# EAGLE library part FT232RL-REEL (library circuit_tree)
IC
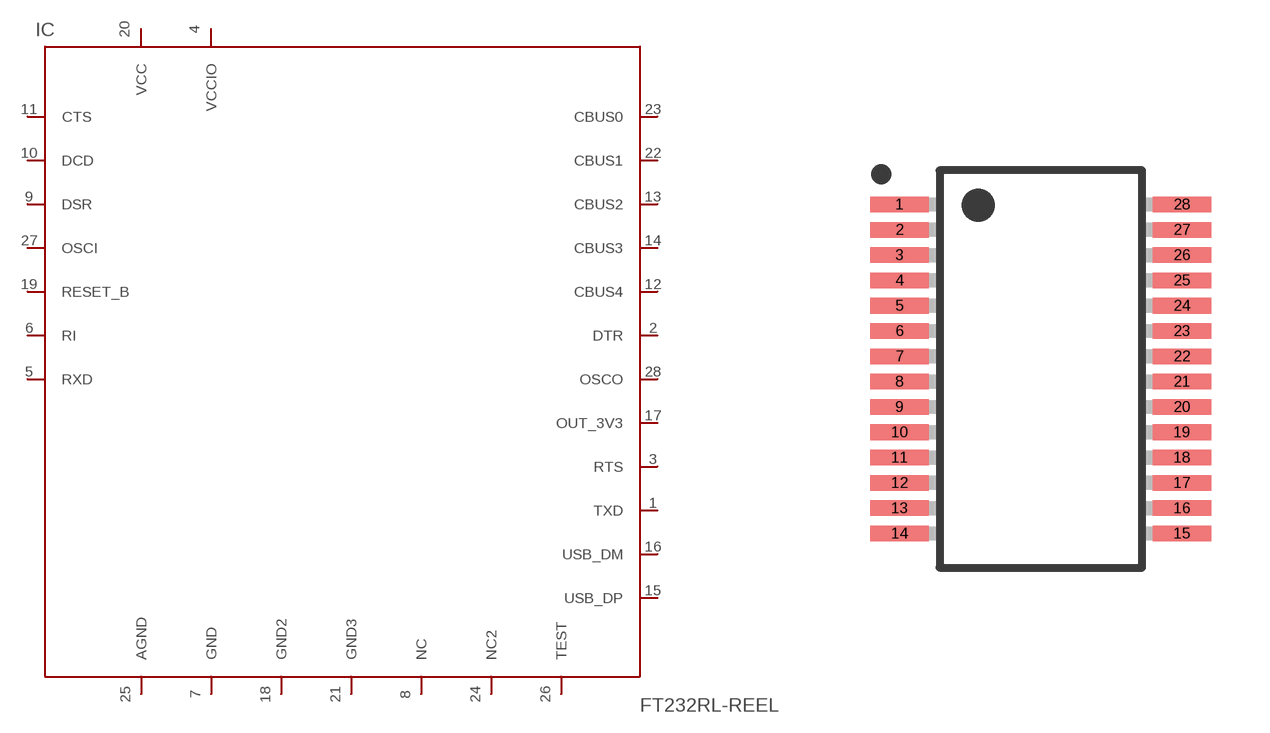
[diagram p5: symbol with the pads of SSOP-28; footprint SSOP-28]

Designator prefix IC

## FT232RL-REEL  [SSOP-28]
1  TXD  pas
2  DTR  pas
3  RTS  pas
4  VCCIO  pas
5  RXD  pas
6  RI  pas
7  GND  pas
8  NC  pas
9  DSR  pas
10  DCD  pas
11  CTS  pas
12  CBUS4  pas
13  CBUS2  pas
14  CBUS3  pas
15  USB_DP  pas
16  USB_DM  pas
17  OUT_3V3  pas
18  GND2  pas
19  RESET_B  pas
20  VCC  pas
21  GND3  pas
22  CBUS1  pas
23  CBUS0  pas
24  NC2  pas
25  AGND  pas
26  TEST  pas
27  OSCI  pas
28  OSCO  pas

## Footprint SSOP-28 (pad centres in mm)
smd 1.5 x 0.4: 1 -3.625,4.225; 2 -3.625,3.575; 3 -3.625,2.925; 4 -3.625,2.275; 5 -3.625,1.625; 6 -3.625,0.975; 7 -3.625,0.325; 8 -3.625,-0.325; 9 -3.625,-0.975; 10 -3.625,-1.625; 11 -3.625,-2.275; 12 -3.625,-2.925; 13 -3.625,-3.575; 14 -3.625,-4.225; 15 3.625,-4.225; 16 3.625,-3.575; 17 3.625,-2.925; 18 3.625,-2.275; 19 3.625,-1.625; 20 3.625,-0.975; 21 3.625,-0.325; 22 3.625,0.325; 23 3.625,0.975; 24 3.625,1.625; 25 3.625,2.275; 26 3.625,2.925; 27 3.625,3.575; 28 3.625,4.225